# Altium footprint library 662008235922.PcbLib: 1 footprints
Each footprint in its own frame and in the unit in brackets; x right, y up, seen from the top. Pads: shape width x height; smd on the part's side, far side on the other; paste and mask are expansions set on the pad; w line width, h text height; cw(c..) or ccw(c..) is an arc to the next point about the centre after c.
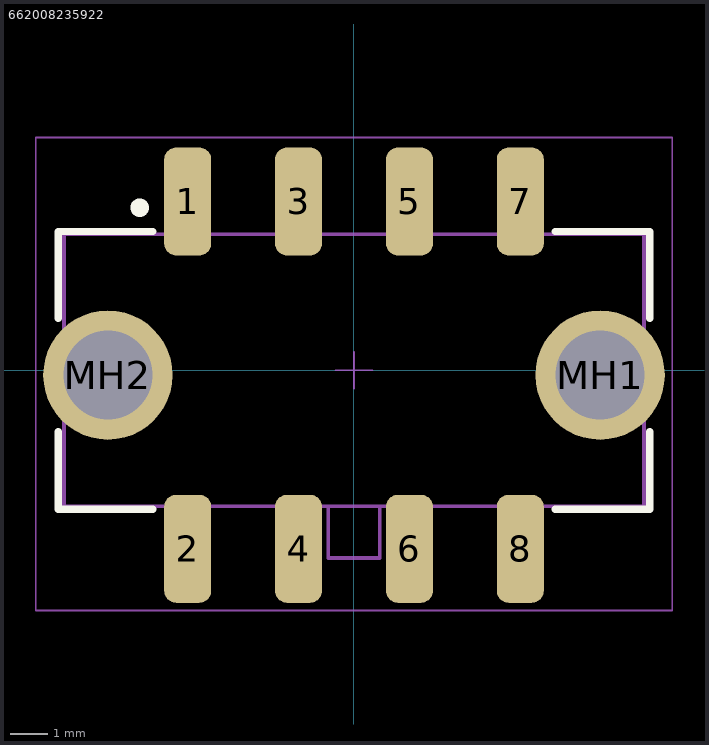
[diagram p0: the footprint, top view; thin cyan lines are the x and y axes]

## 662008235922 [mm]
pads (10):
  rrect50% 1.27x2.92 smd: 1(-4.5,4.57) 2(-4.5,-4.83) 3(-1.5,4.57) 4(-1.5,-4.83) 5(1.5,4.57) 6(1.5,-4.83) 7(4.5,4.57) 8(4.5,-4.83)
  round 3.5 hole 2.41: MH1(6.66,-0.13) MH2(-6.66,-0.13)
Top Overlay:
  circle w0.25: c-5.8,4.4 r0.125
  lines w0.2: -8,-1.665 -8,-3.755 -5.45,-3.755 ; -8,1.405 -8,3.755 -5.45,3.755 ; 5.45,-3.755 8,-3.755 8,-1.665 ; 5.45,3.755 8,3.755 8,1.405
Top Assembly:
  lines w0.1: -0.7,-3.68 -0.7,-5.08 0.7,-5.08 0.7,-3.68 ; -7.85,-3.68 7.85,-3.68 7.85,3.68 -7.85,3.68 -7.85,-3.68
Top Courtyard:
  lines w0.05: -0.5,0 0.5,0 ; 0,-0.5 0,0.5 ; -8.61,-6.5 -8.61,6.3 8.61,6.3 8.61,-6.5 -8.61,-6.5
3D body "662008235922.stp": height 9.92, standoff -3.08, extent -7.85,-5.95 7.85,5.45